# Altium integrated library HienNQ_Connector.IntLib: 24 symbols (part 1 of 2)
Pins are listed as number, name and electrical type; pins without a type are passive.

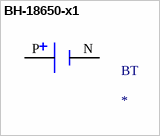
[diagram p0: symbol BH-18650-x1]

## BH-18650-x1
designator BT
Battery Holder _Open_ 18650 1 Cell PC Pin; MF: MPD _Memory; MP: BH-18650-PC; Package: DFN-8 Memory Protection Devices; Value: *; Availability: Unavailable; SnapEDA_Link: https://www.snapeda.com/parts/BH-18650-PC/MPD%20%28Memory%20Protection%20Devices%29/view-part/779074/?ref=snap; Price: None
footprint BH-18650-x1
pins: N NEG, P POS


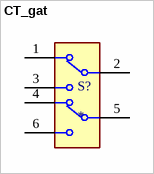
[diagram p1: symbol CT_gat]

## CT_gat
designator S?
Toggle Switch DPDT Through Hole; MP: 100AWDP1T2B4M2QE; MF: E-Switch; Check_prices: https://www.snapeda.com/parts/100AWDP1T2B4M2QE/E-Switch/view-part/?ref=eda; Value: *; Purchase-URL: https://pricing.snapeda.com/search/part/100AWDP1T2B4M2QE/?ref=eda; SnapEDA_Link: https://www.snapeda.com/parts/100AWDP1T2B4M2QE/E-Switch/view-part/?ref=snap; Package: None; Digi-Key_Part_Number: 100AWDP1T2B4M2QE-ND
footprint CT_gat
pins: 1, 2, 3, 4, 5, 6


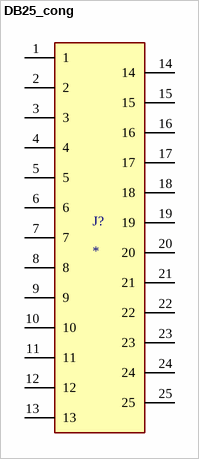
[diagram p2: symbol DB25_cong]

## DB25_cong
designator J?
D Sub Connector, Amplimite HD-20, Amplimite HD-20 Series, DB, Plug, 25, Metal, Solder; MF: TE Connectivity; Number_of_Positions: 25; MP: 5747842-4; Centerline_Pitch: 2.77 mm[.109 in]; Value: *; TE_purchase_URL: https://www.te.com/usa-en/product-5747842-4.html?te_bu=Cor&te_type=disp&te_campaign=seda_glo_cor-seda-global-disp-prtnr-fy19-seda-model-bom-cta_sma-317_1&elqCampaignId=32493; Product_Type: Connector; SnapEDA_Link: https://www.snapeda.com/parts/5747842-4/TE%20Connectivity%20AMP%20Connectors/view-part/2583573/?ref=snap; Package: None; Digi-Key_Purchase_URL: https://www.digikey.de/product-detail/en/te-connectivity-amp-connectors/5747842-4/A32100-ND/808655?utm_source=snapeda&utm_medium=aggregator&utm_campaign=symbol; Digi-Key_Part_Number: A32100-ND
footprint DB25_cong
pins: 1, 2, 3, 4, 5, 6, 7, 8, 9, 10, 11, 12, 13, 14, 15, 16, 17, 18, 19, 20, 21, 22, 23, 24, 25


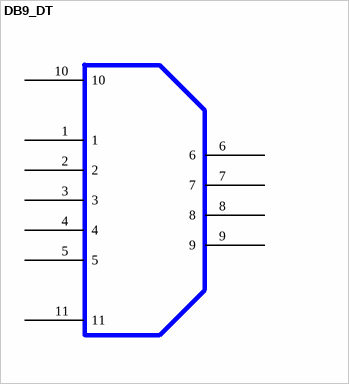
[diagram p3: symbol DB9_DT]

## DB9_DT
designator J?
footprint DB9_DT
pins: 1, 2, 3, 4, 5, 6, 7, 8, 9, 10, 11


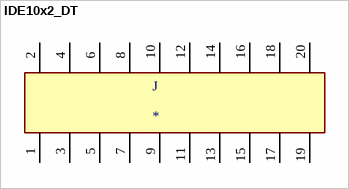
[diagram p4: symbol IDE10x2_DT]

## IDE10x2_DT
designator J
Connector Header Through Hole 20 position 0.100 _2.54mm_; MF: Wurth Electronics; MP: 61202021621; Package: None; Price: None; SnapEDA_Link: https://www.snapeda.com/parts/61202021621/Wurth%20Electronics%20Inc./view-part/1356763/?ref=snap; Availability: Unavailable; Value: *
footprint IDE20_DT
pins: 1, 2, 3, 4, 5, 6, 7, 8, 9, 10, 11, 12, 13, 14, 15, 16, 17, 18, 19, 20


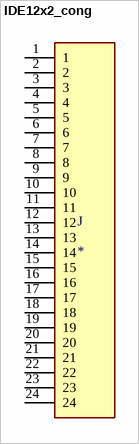
[diagram p5: symbol IDE12x2_cong]

## IDE12x2_cong
designator J
6-102617-0; MF: {'manufacturer': 'TE Connectivity'}; Package: None; MP: 6-102617-0; Price: None; Availability: Unavailable; Value: *
footprint IDE12x2_cong (TE_6-102617-0)
pins: 1, 2, 3, 4, 5, 6, 7, 8, 9, 10, 11, 12, 13, 14, 15, 16, 17, 18, 19, 20, 21, 22, 23, 24


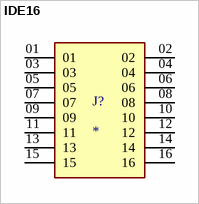
[diagram p6: symbol IDE16]

## IDE16
designator J?
MP: ZSS-108-01-G-D-520; Availability: Unavailable; Value: *; Price: None; Package: None
footprint IDE16_DT
pins: 01, 02, 03, 04, 05, 06, 07, 08, 09, 10, 11, 12, 13, 14, 15, 16


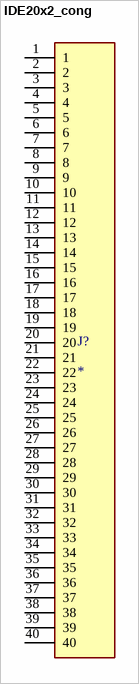
[diagram p7: symbol IDE20x2_cong]

## IDE20x2_cong
designator J?
60 MODII HDR DRRA SHRD .100CL; MP: 5-102570-1; Package: None; Price: None; Value: *; Availability: Unavailable
footprint IDE20x2_cong (TE_5-102570-1)
pins: 1, 2, 3, 4, 5, 6, 7, 8, 9, 10, 11, 12, 13, 14, 15, 16, 17, 18, 19, 20, 21, 22, 23, 24, 25, 26, 27, 28, 29, 30, 31, 32, 33, 34, 35, 36, 37, 38, 39, 40


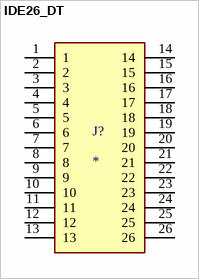
[diagram p8: symbol IDE26_DT]

## IDE26_DT
designator J?
26 MODII HDR DRST SHRD .100CL; MP: 6-103169-1; Package: None; Price: None; Value: *; Availability: Unavailable
footprint IDE26_DT
pins: 1, 2, 3, 4, 5, 6, 7, 8, 9, 10, 11, 12, 13, 14, 15, 16, 17, 18, 19, 20, 21, 22, 23, 24, 25, 26


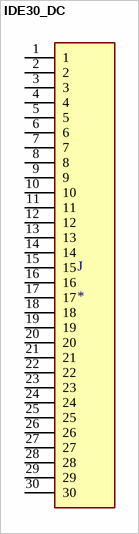
[diagram p9: symbol IDE30_DC]

## IDE30_DC
designator J
30 MODII HDR DRRA SHRD .100CL; Product_Type: Connector; MF: TE Connectivity; Number_of_Positions: 30; MP: 1-103167-2; Centerline_Pitch: 2.54 mm[.1 in]; Package: None; Value: *; TE_purchase_URL: https://www.te.com/usa-en/product-1-103167-2.html?te_bu=Cor&te_type=disp&te_campaign=seda_glo_cor-seda-global-disp-prtnr-fy19-seda-model-bom-cta_sma-317_1&elqCampaignId=32493; Price: None; SnapEDA_Link: https://www.snapeda.com/parts/1-103167-2/TE%20Connectivity/view-part/1440970/?ref=snap; Availability: Unavailable; EU_RoHS_Compliance: Not Compliant
footprint IDE30DC
pins: 1, 2, 3, 4, 5, 6, 7, 8, 9, 10, 11, 12, 13, 14, 15, 16, 17, 18, 19, 20, 21, 22, 23, 24, 25, 26, 27, 28, 29, 30


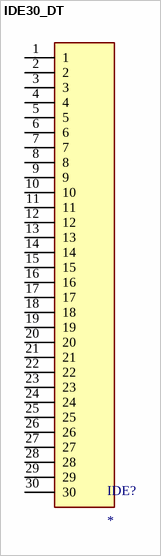
[diagram p10: symbol IDE30_DT]

## IDE30_DT
designator IDE?
footprint IDE30_DT (2.54mm pitch, 30 pin, header; shrouded)
pins: 1, 2, 3, 4, 5, 6, 7, 8, 9, 10, 11, 12, 13, 14, 15, 16, 17, 18, 19, 20, 21, 22, 23, 24, 25, 26, 27, 28, 29, 30


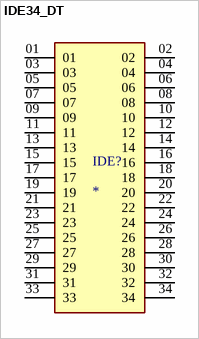
[diagram p11: symbol IDE34_DT]

## IDE34_DT
designator IDE?
MP: TSS-117-01-T-D; Package: None; Price: None; Value: *; Availability: Unavailable
footprint IDE34_DT
pins: 01, 02, 03, 04, 05, 06, 07, 08, 09, 10, 11, 12, 13, 14, 15, 16, 17, 18, 19, 20, 21, 22, 23, 24, 25, 26, 27, 28, 29, 30, 31, 32, 33, 34


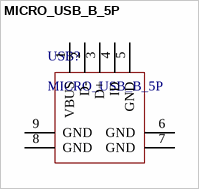
[diagram p12: symbol MICRO_USB_B_5P]

## MICRO_USB_B_5P
designator USB?
footprint MICRO_USB_B_5P
pins: 1 VBUS, 2 D-, 3 D+, 4 ID, 5 GND, 6 GND, 7 GND, 8 GND, 9 GND


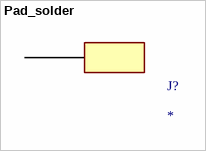
[diagram p13: symbol Pad_solder]

## Pad_solder
designator J?
Pad phu thiec
footprint Pad_solder (Pad han phu thiec)
pins: 0


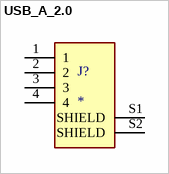
[diagram p14: symbol USB_A_2.0]

## USB_A_2.0
designator J?
Type A, USB 2.0, 1 A; MF: CUI Devices; MP: UJ2-AH-1-SMT; Package: None; Price: None; Value: *; SnapEDA_Link: https://www.snapeda.com/parts/UJ2-AH-1-SMT/CUI%20Devices/view-part/756017/?ref=snap; Availability: Unavailable
footprint USB_a_2.0_DIP_T (CUI_UJ2-AV-2-TH)
footprint USB_A_SMD_N (J_SMD_292303-9-4_2,2.5_14.85_14.06_8.9)
footprint USB_A_DIP_N (SAMTEC_USB-A-S-X-X-TH)
pins: 1, 2, 3, 4, S1 SHIELD, S2 SHIELD


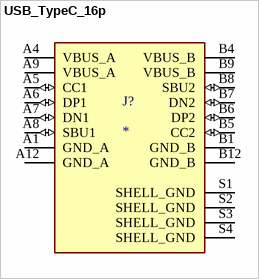
[diagram p15: symbol USB_TypeC_16p]

## USB_TypeC_16p
designator J?
CSP-USC16-TR Valcon USB Type C Surface Mount PCB Socket; Package: None; Purchase-URL: https://pricing.snapeda.com/search/part/CSP-USC16-TR/?ref=eda; MP: CSP-USC16-TR; Check_prices: https://www.snapeda.com/parts/CSP-USC16-TR/Valcon/view-part/4783629/?ref=eda; MF: Valcon; Value: *; Availability: No availability data; Price: None; SnapEDA_Link: https://www.snapeda.com/parts/CSP-USC16-TR/Valcon/view-part/4783629/?ref=snap
footprint USB_TypeC_16p (VALCON_CSP-USC16-TR)
pins: A1 GND_A (power), A4 VBUS_A (power), A5 CC1 (io), A6 DP1 (io), A7 DN1 (io), A8 SBU1 (io), A9 VBUS_A (power), A12 GND_A (power), B1 GND_B (power), B4 VBUS_B (power), B5 CC2 (io), B6 DP2 (io), B7 DN2 (io), B8 SBU2 (io), B9 VBUS_B (power), B12 GND_B (power), S1 SHELL_GND (power), S2 SHELL_GND (power), S3 SHELL_GND (power), S4 SHELL_GND (power)


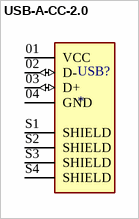
[diagram p16: symbol USB-A-CC-2.0]

## USB-A-CC-2.0
designator USB?
USB-A _USB TYPE-A_ USB 2.0 Receptacle Connector 4 Position Through Hole. USBR-A-S-F-O-VU; MF: Samtec; SnapEDA_Link: https://www.snapeda.com/parts/USBR-A-S-F-O-VU/Samtec%20Inc./view-part/932531/?ref=snap; Price: None; Availability: Unavailable; Package: None; MP: USBR-A-S-F-O-VU; Value: *
footprint USB-A-CC-2.0
pins: 01 VCC (power), 02 D- (io), 03 D+ (io), 04 GND (power), S1 SHIELD, S2 SHIELD, S3 SHIELD, S4 SHIELD


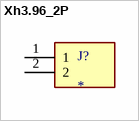
[diagram p17: symbol Xh3.96_2P]

## Xh3.96_2P
designator J?
3.96 EP HDR ASSY 2P NAT/TUBE; MF: TE Connectivity; Number_of_Positions: 2; MP: 1-1318300-2; Product_Type: Header; Centerline_Pitch: 3.96 mm[.156 in]; Availability: Unavailable; Price: None; SnapEDA_Link: https://www.snapeda.com/parts/1-1318300-2/TE%20Connectivity%20AMP%20Connectors/view-part/2361996/?ref=snap; Value: *; EU_RoHS_Compliance: Compliant; DigiKey-Purchase-URL: https://snapeda.com/shop?store=DigiKey&id=2361996; Package: None
footprint XH3.96_2P
pins: 1, 2


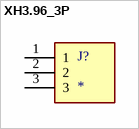
[diagram p18: symbol XH3.96_3P]

## XH3.96_3P
designator J?
Conn Power HDR 3 POS 3.96mm Solder ST Thru-Hole 3 Terminal 1 Port Tube; MF: TE Connectivity; MP: 1-1318300-3; EU_RoHS_Compliance: Compliant; SnapEDA_Link: https://www.snapeda.com/parts/1-1318300-3/TE%20Connectivity%20AMP%20Connectors/view-part/2361995/?ref=snap; Price: None; Package: None; Value: *; TE_purchase_URL: https://www.te.com/usa-en/product-1-1318300-3.html?te_bu=Cor&te_type=disp&te_campaign=seda_glo_cor-seda-global-disp-prtnr-fy19-seda-model-bom-cta_sma-317_1&elqCampaignId=32493; Availability: Unavailable
footprint XH3.96_3P
pins: 1, 2, 3


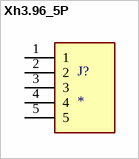
[diagram p19: symbol Xh3.96_5P]

## Xh3.96_5P
designator J?
Connector Header Through Hole 5 position 0.156 (3.96mm); MP: 1-1318300-5; MF: TE Connectivity; SnapEDA_Link: https://www.snapeda.com/parts/1-1318300-5/TE%20Connectivity%20AMP%20Connectors/view-part/2361999/?ref=snap; Value: *; Availability: Unavailable; Package: None; EU_RoHS_Compliance: Compliant; Price: None
footprint XH3.96_5P
pins: 1, 2, 3, 4, 5


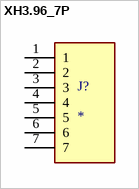
[diagram p20: symbol XH3.96_7P]

## XH3.96_7P
designator J?
MP: 1-1318300-7; Package: None; Price: None; Value: *; Availability: Unavailable
footprint XH3.96_7P
pins: 1, 2, 3, 4, 5, 6, 7


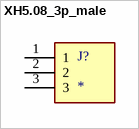
[diagram p21: symbol XH5.08_3p_male]

## XH5.08_3p_male
designator J?
03P EC PWR.200 CL HDR ASSY VRT; Number_of_Positions: 3; Centerline_Pitch: 5.08 mm[.2 in]; MP: 1744037-3; Product_Type: Header; MF: TE Connectivity; TE_purchase_URL: https://www.te.com/usa-en/product-1744037-3.html?te_bu=Cor&te_type=disp&te_campaign=seda_glo_cor-seda-global-disp-prtnr-fy19-seda-model-bom-cta_sma-317_1&elqCampaignId=32493; Package: None; Digi-Key_Purchase_URL: https://www.digikey.com/product-detail/en/te-connectivity-amp-connectors/1744037-3/A112699-ND/2299272?utm_source=snapeda&utm_medium=aggregator&utm_campaign=symbol; Value: *; SnapEDA_Link: https://www.snapeda.com/parts/1744037-3/TE%20Connectivity%20AMP%20Connectors/view-part/1401764/?ref=snap; Digi-Key_Part_Number: A112699-ND; EU_RoHS_Compliance: Compliant
footprint XH5.08_3p_male
pins: 1, 2, 3


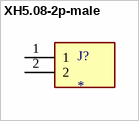
[diagram p22: symbol XH5.08-2p-male]

## XH5.08-2p-male
designator J?
1744037-2-02P EC PWR.200 CL HDR ASSY VRT; MF: TE Connectivity; Package: None; Digi-Key_Part_Number: A112698-ND; Purchase-URL: https://pricing.snapeda.com/search/part/1744037-2/?ref=eda; Value: *; EU_RoHS_Compliance: Compliant; SnapEDA_Link: https://www.snapeda.com/parts/1744037-2/TE+Connectivity+AMP+Connectors/view-part/?ref=snap; Check_prices: https://www.snapeda.com/parts/1744037-2/TE+Connectivity+AMP+Connectors/view-part/?ref=eda; MP: 1744037-2
footprint XH5.08-2p-male
pins: 1, 2
